# Altium schematic symbol library SCH - MCU - ATMEGA - MICROCHIP ATXMEGA128A1U-C7U BGA100.SchLib: 1 symbol
Pins are listed as number, name and electrical type; pins without a type are passive.

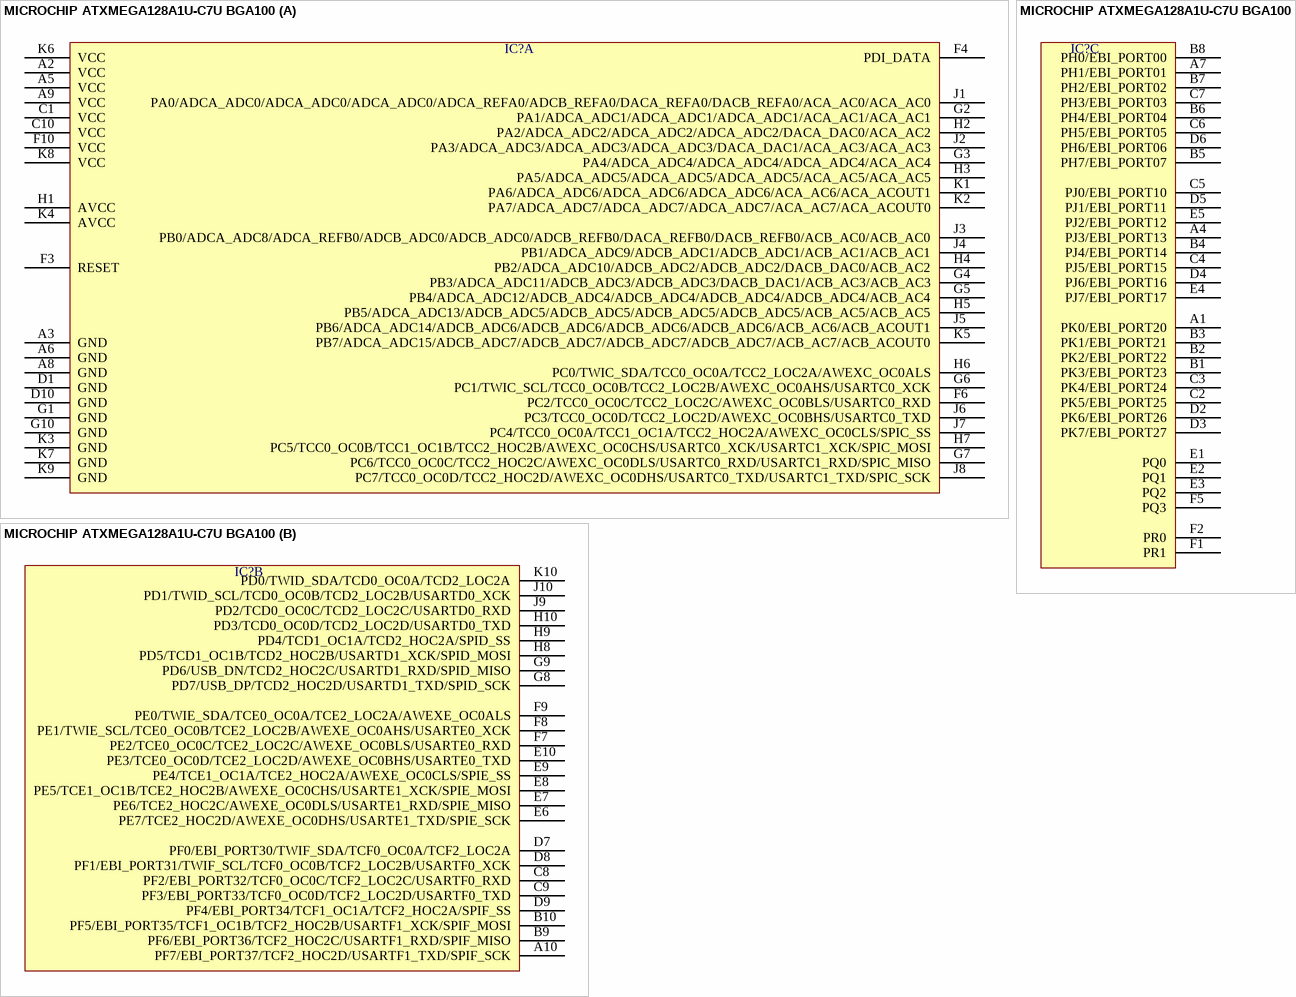
[diagram p0: symbol MICROCHIP ATXMEGA128A1U-C7U BGA100]

## MICROCHIP ATXMEGA128A1U-C7U BGA100
designator IC?  (value not drawn)
part A pins: A2 VCC, A3 GND, A5 VCC, A6 GND, A8 GND, A9 VCC, C1 VCC, C10 VCC, D1 GND, D10 GND, F3 RESET, F4 PDI_DATA, F6 PC2/TCC0_OC0C/TCC2_LOC2C/AWEXC_OC0BLS/USARTC0_RXD, F10 VCC, G1 GND, G2 PA1/ADCA_ADC1/ADCA_ADC1/ADCA_ADC1/ACA_AC1/ACA_AC1, G3 PA4/ADCA_ADC4/ADCA_ADC4/ADCA_ADC4/ACA_AC4, G4 PB3/ADCA_ADC11/ADCB_ADC3/ADCB_ADC3/DACB_DAC1/ACB_AC3/ACB_AC3, G5 PB4/ADCA_ADC12/ADCB_ADC4/ADCB_ADC4/ADCB_ADC4/ADCB_ADC4/ACB_AC4, G6 PC1/TWIC_SCL/TCC0_OC0B/TCC2_LOC2B/AWEXC_OC0AHS/USARTC0_XCK, G7 PC6/TCC0_OC0C/TCC2_HOC2C/AWEXC_OC0DLS/USARTC0_RXD/USARTC1_RXD/SPIC_MISO, G10 GND, H1 AVCC, H2 PA2/ADCA_ADC2/ADCA_ADC2/ADCA_ADC2/DACA_DAC0/ACA_AC2, H3 PA5/ADCA_ADC5/ADCA_ADC5/ADCA_ADC5/ACA_AC5/ACA_AC5, H4 PB2/ADCA_ADC10/ADCB_ADC2/ADCB_ADC2/DACB_DAC0/ACB_AC2, H5 PB5/ADCA_ADC13/ADCB_ADC5/ADCB_ADC5/ADCB_ADC5/ADCB_ADC5/ACB_AC5/ACB_AC5, H6 PC0/TWIC_SDA/TCC0_OC0A/TCC2_LOC2A/AWEXC_OC0ALS, H7 PC5/TCC0_OC0B/TCC1_OC1B/TCC2_HOC2B/AWEXC_OC0CHS/USARTC0_XCK/USARTC1_XCK/SPIC_MOSI, J1 PA0/ADCA_ADC0/ADCA_ADC0/ADCA_ADC0/ADCA_REFA0/ADCB_REFA0/DACA_REFA0/DACB_REFA0/ACA_AC0/ACA_AC0, J2 PA3/ADCA_ADC3/ADCA_ADC3/ADCA_ADC3/DACA_DAC1/ACA_AC3/ACA_AC3, J3 PB0/ADCA_ADC8/ADCA_REFB0/ADCB_ADC0/ADCB_ADC0/ADCB_REFB0/DACA_REFB0/DACB_REFB0/ACB_AC0/ACB_AC0, J4 PB1/ADCA_ADC9/ADCB_ADC1/ADCB_ADC1/ACB_AC1/ACB_AC1, J5 PB6/ADCA_ADC14/ADCB_ADC6/ADCB_ADC6/ADCB_ADC6/ADCB_ADC6/ACB_AC6/ACB_ACOUT1, J6 PC3/TCC0_OC0D/TCC2_LOC2D/AWEXC_OC0BHS/USARTC0_TXD, J7 PC4/TCC0_OC0A/TCC1_OC1A/TCC2_HOC2A/AWEXC_OC0CLS/SPIC_SS, J8 PC7/TCC0_OC0D/TCC2_HOC2D/AWEXC_OC0DHS/USARTC0_TXD/USARTC1_TXD/SPIC_SCK, K1 PA6/ADCA_ADC6/ADCA_ADC6/ADCA_ADC6/ACA_AC6/ACA_ACOUT1, K2 PA7/ADCA_ADC7/ADCA_ADC7/ADCA_ADC7/ACA_AC7/ACA_ACOUT0, K3 GND, K4 AVCC, K5 PB7/ADCA_ADC15/ADCB_ADC7/ADCB_ADC7/ADCB_ADC7/ADCB_ADC7/ACB_AC7/ACB_ACOUT0, K6 VCC , K7 GND, K8 VCC, K9 GND
part B pins: A10 PF7/EBI_PORT37/TCF2_HOC2D/USARTF1_TXD/SPIF_SCK, B9 PF6/EBI_PORT36/TCF2_HOC2C/USARTF1_RXD/SPIF_MISO, B10 PF5/EBI_PORT35/TCF1_OC1B/TCF2_HOC2B/USARTF1_XCK/SPIF_MOSI, C8 PF2/EBI_PORT32/TCF0_OC0C/TCF2_LOC2C/USARTF0_RXD, C9 PF3/EBI_PORT33/TCF0_OC0D/TCF2_LOC2D/USARTF0_TXD, D7 PF0/EBI_PORT30/TWIF_SDA/TCF0_OC0A/TCF2_LOC2A, D8 PF1/EBI_PORT31/TWIF_SCL/TCF0_OC0B/TCF2_LOC2B/USARTF0_XCK, D9 PF4/EBI_PORT34/TCF1_OC1A/TCF2_HOC2A/SPIF_SS, E6 PE7/TCE2_HOC2D/AWEXE_OC0DHS/USARTE1_TXD/SPIE_SCK, E7 PE6/TCE2_HOC2C/AWEXE_OC0DLS/USARTE1_RXD/SPIE_MISO, E8 PE5/TCE1_OC1B/TCE2_HOC2B/AWEXE_OC0CHS/USARTE1_XCK/SPIE_MOSI, E9 PE4/TCE1_OC1A/TCE2_HOC2A/AWEXE_OC0CLS/SPIE_SS, E10 PE3/TCE0_OC0D/TCE2_LOC2D/AWEXE_OC0BHS/USARTE0_TXD, F7 PE2/TCE0_OC0C/TCE2_LOC2C/AWEXE_OC0BLS/USARTE0_RXD, F8 PE1/TWIE_SCL/TCE0_OC0B/TCE2_LOC2B/AWEXE_OC0AHS/USARTE0_XCK, F9 PE0/TWIE_SDA/TCE0_OC0A/TCE2_LOC2A/AWEXE_OC0ALS, G8 PD7/USB_DP/TCD2_HOC2D/USARTD1_TXD/SPID_SCK, G9 PD6/USB_DN/TCD2_HOC2C/USARTD1_RXD/SPID_MISO, H8 PD5/TCD1_OC1B/TCD2_HOC2B/USARTD1_XCK/SPID_MOSI, H9 PD4/TCD1_OC1A/TCD2_HOC2A/SPID_SS, H10 PD3/TCD0_OC0D/TCD2_LOC2D/USARTD0_TXD, J9 PD2/TCD0_OC0C/TCD2_LOC2C/USARTD0_RXD, J10 PD1/TWID_SCL/TCD0_OC0B/TCD2_LOC2B/USARTD0_XCK, K10 PD0/TWID_SDA/TCD0_OC0A/TCD2_LOC2A
part C pins: A1 PK0/EBI_PORT20, A4 PJ3/EBI_PORT13, A7 PH1/EBI_PORT01, B1 PK3/EBI_PORT23, B2 PK2/EBI_PORT22, B3 PK1/EBI_PORT21, B4 PJ4/EBI_PORT14, B5 PH7/EBI_PORT07, B6 PH4/EBI_PORT04, B7 PH2/EBI_PORT02, B8 PH0/EBI_PORT00, C2 PK5/EBI_PORT25, C3 PK4/EBI_PORT24, C4 PJ5/EBI_PORT15, C5 PJ0/EBI_PORT10, C6 PH5/EBI_PORT05, C7 PH3/EBI_PORT03, D2 PK6/EBI_PORT26, D3 PK7/EBI_PORT27, D4 PJ6/EBI_PORT16, D5 PJ1/EBI_PORT11, D6 PH6/EBI_PORT06, E1 PQ0, E2 PQ1, E3 PQ2, E4 PJ7/EBI_PORT17, E5 PJ2/EBI_PORT12, F1 PR1, F2 PR0, F5 PQ3